# Altium footprint library TSOP54-400.PcbLib: 1 footprints
Each footprint in its own frame and in the unit in brackets; x right, y up, seen from the top. Pads: shape width x height; smd on the part's side, far side on the other; paste and mask are expansions set on the pad; w line width, h text height; cw(c..) or ccw(c..) is an arc to the next point about the centre after c.
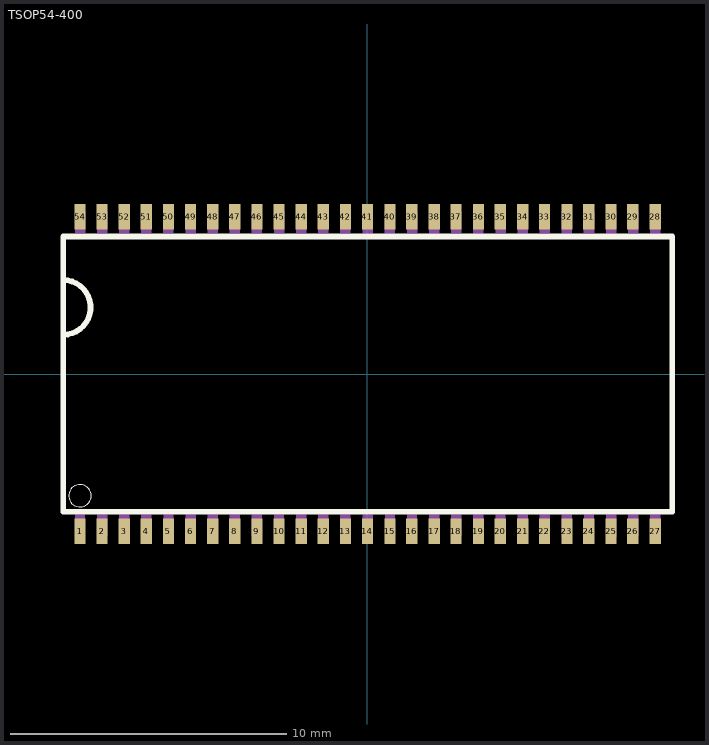
[diagram p0: the footprint, top view; thin cyan lines are the x and y axes]

## TSOP54-400 [mil]
pads (54):
  rect 16x36 smd: 1(-409.45,-223.62) 2(-377.95,-223.62) 3(-346.46,-223.62) 4(-314.96,-223.62) 5(-283.46,-223.62) 6(-251.97,-223.62) 7(-220.47,-223.62) 8(-188.98,-223.62) 9(-157.48,-223.62) 10(-125.98,-223.62) 11(-94.49,-223.62) 12(-62.99,-223.62) 13(-31.5,-223.62) 14(0,-223.62) 15(32,-223.62) 16(63,-223.62) 17(95,-223.62) 18(126,-223.62) 19(158,-223.62) 20(189,-223.62) 21(221,-223.62) 22(252,-223.62) 23(284,-223.62) 24(315,-223.62) 25(347,-223.62) 26(378,-223.62) 27(410,-223.62) 28(410,224) 29(378,224) 30(347,224) 31(315,224) 32(284,224) 33(252,224) 34(221,224) 35(189,224) 36(158,224) 37(126,224) 38(95,224) 39(63,224) 40(32,224) 41(0,224) 42(-31.5,224) 43(-62.99,224) 44(-94.49,224) 45(-125.98,224) 46(-157.48,224) 47(-188.98,224) 48(-220.47,224) 49(-251.97,224) 50(-283.46,224) 51(-314.96,224) 52(-346.46,224) 53(-377.95,224) 54(-409.45,224)
Top Overlay:
  circle w0: c-409.45,-173.23 r16
  lines w8: -433.4,56 ccw(c-433.4,95) -433.4,134 ; -433.4,56 -433.4,134 ; -433.4,56 -433.4,-196 434,-196 434,196 -433.4,196 -433.4,134
Mechanical 16:
  region: -402.07,-231.5 -402.07,-200 -416.83,-200 -416.83,-231.5
  region: -370.57,-231.5 -370.57,-200 -385.33,-200 -385.33,-231.5
  region: -339.07,-231.5 -339.07,-200 -353.84,-200 -353.84,-231.5
  region: -307.58,-231.5 -307.58,-200 -322.34,-200 -322.34,-231.5
  region: -276.08,-231.5 -276.08,-200 -290.85,-200 -290.85,-231.5
  region: -244.59,-231.5 -244.59,-200 -259.35,-200 -259.35,-231.5
  region: -213.09,-231.5 -213.09,-200 -227.85,-200 -227.85,-231.5
  region: -181.59,-231.5 -181.59,-200 -196.36,-200 -196.36,-231.5
  region: -150.1,-231.5 -150.1,-200 -164.86,-200 -164.86,-231.5
  region: -118.6,-231.5 -118.6,-200 -133.37,-200 -133.37,-231.5
  region: -87.11,-231.5 -87.11,-200 -101.87,-200 -101.87,-231.5
  region: -55.61,-231.5 -55.61,-200 -70.37,-200 -70.37,-231.5
  region: -24.11,-231.5 -24.11,-200 -38.88,-200 -38.88,-231.5
  region: 7.51,-231.62 7.51,-199.87 -7.26,-199.87 -7.26,-231.62
  region: 39.38,-231.75 39.38,-199.75 24.62,-199.75 24.62,-231.75
  region: 70.88,-231.25 70.88,-200.25 56.12,-200.25 56.12,-231.25
  region: 102.38,-231.75 102.38,-199.75 87.62,-199.75 87.62,-231.75
  region: 133.88,-231.25 133.88,-200.25 119.12,-200.25 119.12,-231.25
  region: 165.38,-231.75 165.38,-199.75 150.62,-199.75 150.62,-231.75
  region: 196.88,-231.25 196.88,-200.25 182.12,-200.25 182.12,-231.25
  region: 228.38,-231.75 228.38,-199.75 213.62,-199.75 213.62,-231.75
  region: 259.88,-231.25 259.88,-200.25 245.12,-200.25 245.12,-231.25
  region: 291.38,-231.75 291.38,-199.75 276.62,-199.75 276.62,-231.75
  region: 322.88,-231.25 322.88,-200.25 308.12,-200.25 308.12,-231.25
  region: 354.38,-231.75 354.38,-199.75 339.62,-199.75 339.62,-231.75
  region: 385.88,-231.25 385.88,-200.25 371.12,-200.25 371.12,-231.25
  region: 417.38,-231.75 417.38,-199.75 402.62,-199.75 402.62,-231.75
  region: 402.5,232.5 402.5,200.5 417.5,200.5 417.5,232.5
  region: 386,201 386,232 371,232 371,201
  region: 354.5,200.5 354.5,232.5 339.5,232.5 339.5,200.5
  region: 323,201 323,232 308,232 308,201
  region: 291.5,200.5 291.5,232.5 276.5,232.5 276.5,200.5
  region: 260,201 260,232 245,232 245,201
  region: 228.5,200.5 228.5,232.5 213.5,232.5 213.5,200.5
  region: 197,201 197,232 182,232 182,201
  region: 165.5,200.5 165.5,232.5 150.5,232.5 150.5,200.5
  region: 134,201 134,232 119,232 119,201
  region: 102.5,200.5 102.5,232.5 87.5,232.5 87.5,200.5
  region: 71,201 71,232 56,232 56,201
  region: 39.5,200.5 39.5,232.5 24.5,232.5 24.5,200.5
  region: 7.63,200.63 7.63,232.37 -7.37,232.37 -7.37,200.63
  region: -24,200.75 -24,232.25 -39,232.25 -39,200.75
  region: -55.49,200.75 -55.49,232.25 -70.49,232.25 -70.49,200.75
  region: -86.99,200.75 -86.99,232.25 -101.99,232.25 -101.99,200.75
  region: -118.48,200.75 -118.48,232.25 -133.48,232.25 -133.48,200.75
  region: -149.98,200.75 -149.98,232.25 -164.98,232.25 -164.98,200.75
  region: -181.48,200.75 -181.48,232.25 -196.48,232.25 -196.48,200.75
  region: -212.97,200.75 -212.97,232.25 -227.97,232.25 -227.97,200.75
  region: -244.47,200.75 -244.47,232.25 -259.47,232.25 -259.47,200.75
  region: -275.96,200.75 -275.96,232.25 -290.96,232.25 -290.96,200.75
  region: -307.46,200.75 -307.46,232.25 -322.46,232.25 -322.46,200.75
  region: -338.96,200.75 -338.96,232.25 -353.96,232.25 -353.96,200.75
  region: -370.45,200.75 -370.45,232.25 -385.45,232.25 -385.45,200.75
  region: -401.95,200.75 -401.95,232.25 -416.95,232.25 -416.95,200.75